# Altium footprint library PcbLib1.PcbLib: 22 footprints (part 1 of 2)
Each footprint in its own frame and in the unit in brackets; x right, y up, seen from the top. Pads: shape width x height; smd on the part's side, far side on the other; paste and mask are expansions set on the pad; w line width, h text height; cw(c..) or ccw(c..) is an arc to the next point about the centre after c.
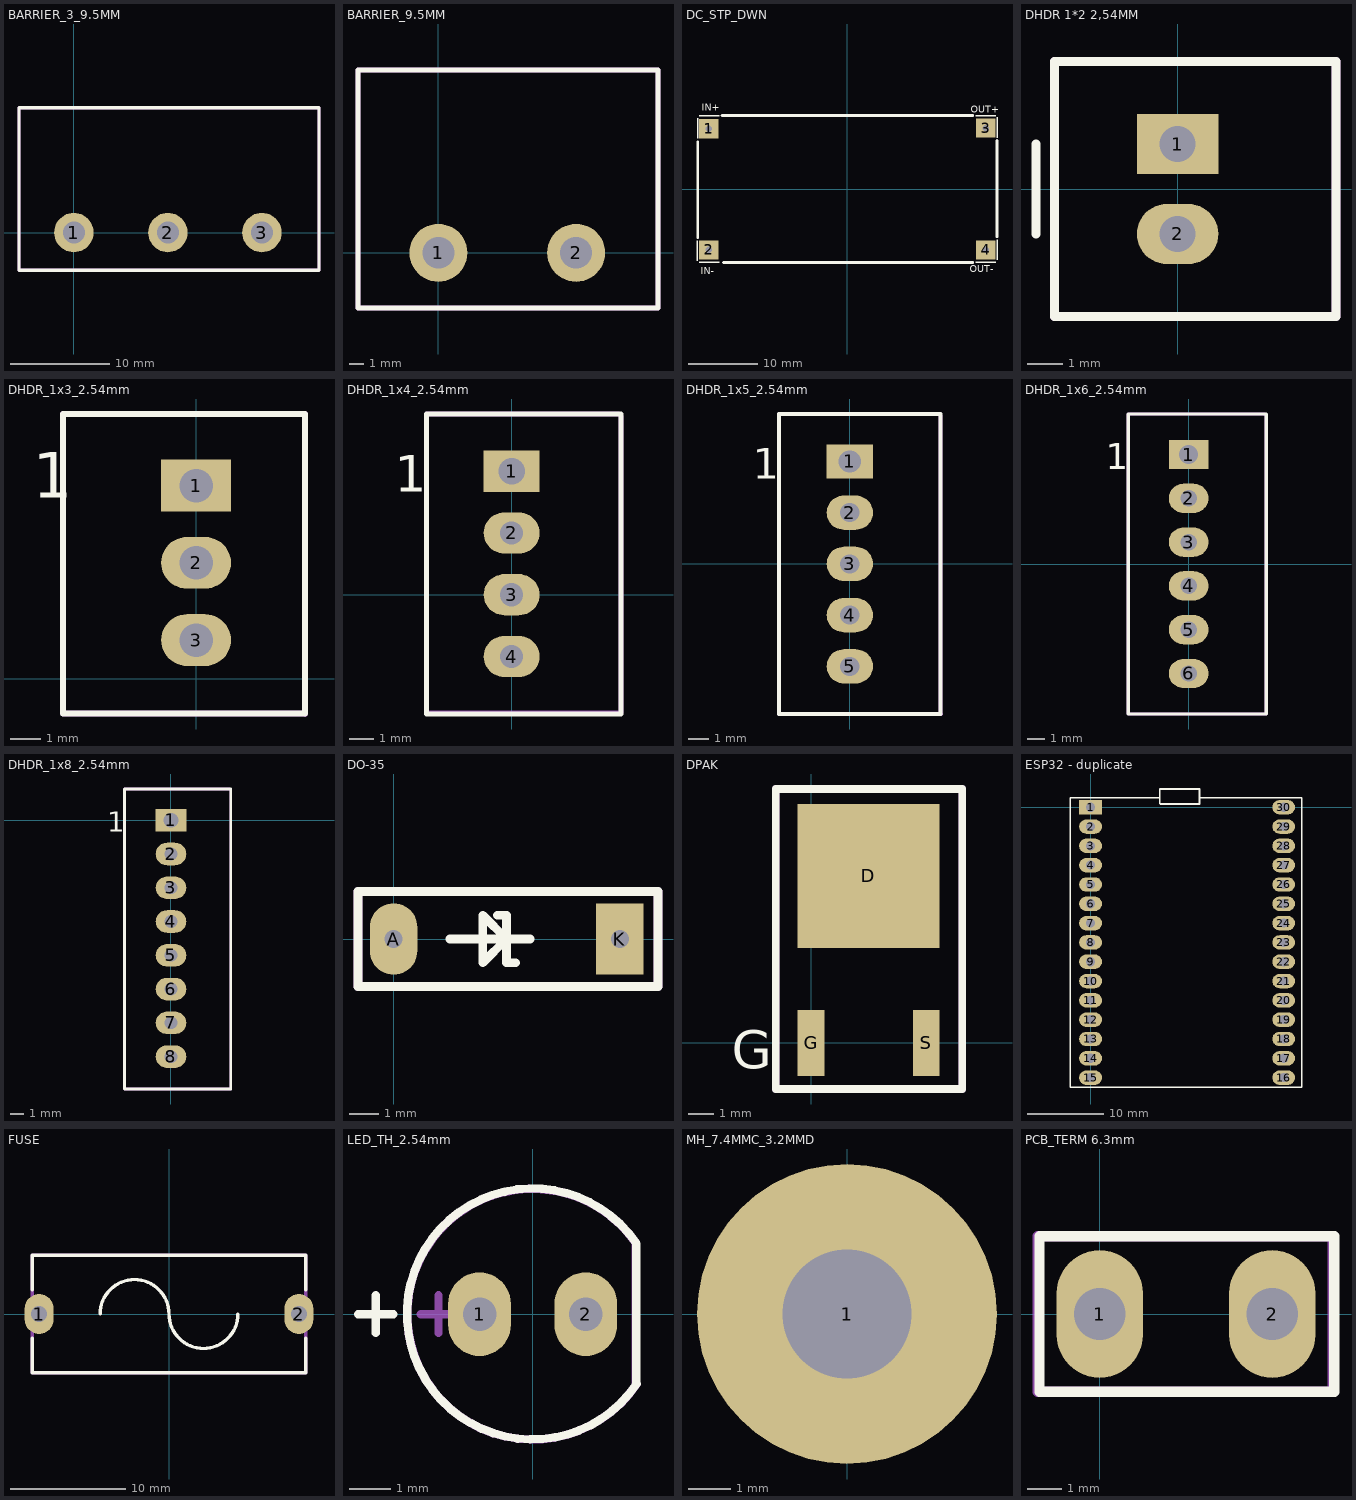
[diagram p0: the footprints below, top view; thin cyan lines are the x and y axes]

## BARRIER_3_9.5MM [mm]
pads (3):
  round 4 hole 2.2: 1(0,0) 2(9.5,0) 3(19,0)
Top Overlay:
  lines w0.35: -5.55,-3.8 24.765,-3.8 24.765,12.6 -5.55,12.6 -5.55,-3.8
Mechanical 2:
  lines w0.35: -5.55,-3.8 -5.55,12.6 24.765,12.6 24.765,-3.8 -5.55,-3.8
  text ".Designator" at -2.45,5.7 h4
3D body "hb9500_asm.stp": height 20.61, standoff -4.43, extent -5.5,-3.725 15.1,12.475
3D body "hb9500_asm.stp": height 20.61, standoff -4.43, extent 4,-3.725 24.6,12.475

## BARRIER_9.5MM [mm]
pads (2):
  round 4 hole 2.2: 1(0,0) 2(9.5,0)
Top Overlay:
  lines w0.35: -5.55,-3.8 15.15,-3.8 15.15,12.6 -5.55,12.6 -5.55,-3.8
Mechanical 2:
  lines w0.35: -5.55,-3.8 -5.55,12.6 15.15,12.6 15.15,-3.8 -5.55,-3.8
  text ".Designator" at -2.45,5.7 h4
3D body "hb9500_asm.stp": height 20.61, standoff -4.43, extent -5.5,-3.725 15.1,12.475

## DC_STP_DWN [mm]
pads (4):
  rect 2.8x2.8 hole 0.95: 1(-20,8.7) 2(-20,-8.8) 3(20,8.8) 4(20,-8.8)
Top Overlay:
  lines w0.2: -21.717,-10.393 -21.717,-7.493 ; -21.6,7.3 -21.6,10.2 ; -21.4,-10.6 -18.5,-10.6 ; -21.4,10.6 -18.5,10.6 ; 18.5,-10.6 21.4,-10.6 ; 18.5,10.6 21.4,10.6 ; 21.6,-10.2 21.6,-7.3 ; 21.6,7.427 21.6,10.327
  lines w0.4: -21.6,-7 -21.6,6.8 ; -18.1,10.6 18.1,10.6 ; -17.9,-10.6 18.1,-10.6 ; 21.6,-6.9 21.6,7
  text "OUT+" at 17.8,11 h1
  text "IN+" at -21,11.3 h1
  text "IN-" at -21.2,-12.3 h1
  text "OUT-" at 17.7,-12 h1
3D body "LM2596 DC-DC StepDown Converter v1.step": height 13.16, standoff -0.99, extent -21.5,-10.5 21.5,10.5

## DHDR 1*2 2,54MM [mm]
pads (2):
  rect 2.3x1.7 hole 1.016: 1(0,1.27)
  oval 2.3x1.7 hole 1.016: 2(0,-1.27)
Top Overlay:
  lines w0.254: -4,-1.275 -4,1.275 ; -3.475,-3.607 4.475,-3.607 4.475,3.607 -3.475,3.607 -3.475,-3.607
Mechanical 2:
  lines w0.254: -3.475,-3.607 -3.475,3.607 4.475,3.607 4.475,-3.607 -3.475,-3.607
  text ".Designator" at -2.7,-0.85 h2.5
3D body "c-2-644861-2-n-3d.stp": height 10.43, standoff -3.54, extent -3.475,-3.607 4.475,3.607

## DHDR_1x3_2.54mm [mm]
pads (3):
  rect 2.3x1.7 hole 1.1: 1(0,6.35)
  oval 2.3x1.7 hole 1.1: 2(0,3.81) 3(0,1.27)
Top Overlay:
  lines w0.2: -4.369,-1.143 -4.369,8.7 3.581,8.7 3.581,-1.143 -4.369,-1.143
  text "1" at -5.359,5.944 h1.5
Mechanical 2:
  lines w0.2: 3.567,-1.143 -4.369,-1.143 -4.369,8.7 3.581,8.7 3.581,-1.158
  text ".Designator" at 2.4,-1.3 h4.5
3D body "c-2-644861-3-n-3d.stp": height 9.66, standoff -4.31, extent -4.432,-1.041 3.518,8.712

## DHDR_1x4_2.54mm [mm]
pads (4):
  rect 2.3x1.7 hole 1.1: 1(0,5.08)
  oval 2.3x1.7 hole 0.95: 2(0,2.54) 3(0,0) 4(0,-2.54)
Top Overlay:
  lines w0.2: 4.495,7.425 4.495,-4.902 -3.5,-4.902 -3.5,7.43 4.5,7.43
  text "1" at -4.8,4.23 h1.5
Mechanical 2:
  lines w0.2: 4.4,7.43 -3.5,7.43 -3.5,-4.851 4.5,-4.851 4.5,7.33
  text ".Designator" at 2.438,-2.565 h4.5
3D body "c-2-644861-4-n-3d.stp": height 10.43, standoff -3.54, extent -3.467,-4.953 4.483,7.341

## DHDR_1x5_2.54mm [mm]
pads (5):
  rect 2.3x1.7 hole 1.1: 1(0,5.08)
  oval 2.3x1.7 hole 0.95: 2(0,2.54) 3(0,0) 4(0,-2.54) 5(0,-5.08)
Top Overlay:
  lines w0.2: -3.505,-7.442 4.495,-7.442 4.495,7.425 ; -3.5,-7.437 -3.5,7.43 4.5,7.43
  text "1" at -4.8,4.23 h1.5
Mechanical 2:
  lines w0.2: -3.5,-7.442 -3.5,7.43 4.4,7.43 ; -3.48,-7.442 4.52,-7.442 ; 4.5,-7.322 4.5,7.33
  text ".Designator" at 2.4,-2.57 h4.5
3D body "c-2-644861-5-n-3d.stp": height 10.43, standoff -3.54, extent -3.492,-7.417 4.458,7.417

## DHDR_1x6_2.54mm [mm]
pads (6):
  rect 2.3x1.7 hole 1.1: 1(0,6.35)
  oval 2.3x1.7 hole 0.95: 2(0,3.81) 3(0,1.27) 4(0,-1.27) 5(0,-3.81) 6(0,-6.35)
Top Overlay:
  lines w0.2: -3.5,-8.7 -3.5,8.7 4.5,8.7 4.5,-8.7 -3.5,-8.7
  text "1" at -4.8,5.5 h1.5
Mechanical 2:
  lines w0.2: -3.5,-8.7 4.5,-8.7 4.5,8.6 4.4,8.7 -3.5,8.7 -3.5,-8.7
  text ".Designator" at 2.667,-3.302 h4.5
3D body "c-2-644861-6-n-3d.stp": height 10.43, standoff -3.54, extent -3.505,-8.687 4.445,8.687

## DHDR_1x8_2.54mm [mm]
pads (8):
  rect 2.3x1.7 hole 1.1: 1(0,0)
  oval 2.3x1.7 hole 0.95: 2(0,-2.54) 3(0,-5.08) 4(0,-7.62) 5(0,-10.16) 6(0,-12.7) 7(0,-15.24) 8(0,-17.78)
Top Overlay:
  lines w0.2: 4.495,2.345 4.495,-20.218 -3.5,-20.218 -3.5,2.35 4.5,2.35
  text "1" at -4.8,-0.85 h1.5
Mechanical 2:
  lines w0.2: 4.4,2.35 -3.5,2.35 -3.5,-20.218 4.5,-20.218 4.5,2.25
  text ".Designator" at 2.4,-7.65 h4.5
3D body "c-2-644861-8-n-3d.stp": height 10.43, standoff -3.54, extent -3.467,-20.168 4.483,2.286

## DO-35 [mm]
pads (2):
  oval 1.6x2.4 hole 0.6: A(0,0)
  rect 1.6x2.4 hole 0.6: K(7.62,0)
Top Overlay:
  lines w0.3: 1.9,0 4.6,0 ; 3.5,0.8 3.8,0.8 3.8,-0.8 4.1,-0.8 ; -1.2,-1.6 -1.2,1.6 8.9,1.6 8.9,-1.6 -1.2,-1.6 ; 3,-0.8 3,0.8 3.8,0 3,-0.8
Mechanical 2:
  lines w0.3: -1.2,-1.6 -1.2,1.6 8.9,1.6 8.9,-1.6 -1.2,-1.6
3D body "Diode DO-35 300 mil.step": height 2.01, standoff -2, extent -0.26,-1 7.86,1.012

## DPAK [mm]
pads (3):
  rect 5.632x5.7 smd: D(2.275,6.625)
  rect 1.06x2.6 smd: G(0,0) S(4.572,0)
Top Overlay:
  lines w0.3: -1.4,-1.825 6,-1.825 6,10.075 -1.4,10.075 -1.4,8.225 -1.4,-1.825
  text "G" at -3.15,-1.025 h1.5
Mechanical 2:
  lines w0.3: -1.4,-1.825 6,-1.825 6,10.075 -1.4,10.075 -1.4,8.225 -1.4,-1.825
  text ".Designator" at -0.375,3.425 h1.5
3D body "TO252 Gehäuse.step": height 2.3, standoff -0.05, extent -0.975,-0.5 5.525,8.2

## ESP32 - duplicate [mm]
pads (30):
  rect 3x1.9 hole 1.2: 1(0,0)
  oval 3x1.9 hole 1.2: 2(0,-2.54) 3(0,-5.08) 4(0,-7.62) 5(0,-10.16) 6(0,-12.7) 7(0,-15.24) 8(0,-17.78) 9(0,-20.32) 10(0,-22.86) 11(0,-25.4) 12(0,-27.94) 13(0,-30.48) 14(0,-33.02) 15(0,-35.56) 16(25.4,-35.56) 17(25.4,-33.02) 18(25.4,-30.48) 19(25.4,-27.94) 20(25.4,-25.4) 21(25.4,-22.86) 22(25.4,-20.32) 23(25.4,-17.78) 24(25.4,-15.24) 25(25.4,-12.7) 26(25.4,-10.16) 27(25.4,-7.62) 28(25.4,-5.08) 29(25.4,-2.54) 30(25.4,0)
Top Overlay:
  lines w0.2: 9.1,1.27 -2.7,1.27 -2.7,-36.83 27.8,-36.83 27.8,1.27 14.3,1.27
  lines w0.254: 9.1,0.5 9.1,2.4 14.3,2.4 14.3,0.4 9.2,0.4 9.1,0.5

## FUSE [mm]
pads (2):
  oval 2.5x3.5 hole 1.4: 1(-11.3,0) 2(11.3,0)
Top Overlay:
  lines w0.3: -11.9,-2.1 -11.9,-5.1 11.9,-5.1 11.9,-2.1 ; -11.9,2.1 -11.9,5.1 11.9,5.1 11.9,2.1 ; -6,0 cw(c-3,0) 0,0 ccw(c3,0) 6,0
Mechanical 1:
  lines w0.3: -11.9,-5.1 11.9,-5.1 11.9,5.1 -11.9,5.1 -11.9,-5.1
Mechanical 2:
  text ".Designator" at -7.45,-0.55 h1.5
3D body "FUSE-0031.8201.stp": height 11.5, standoff -4, extent -11.55,-4.8 11.55,4.8

## LED_TH_2.54mm [mm]
pads (2):
  oval 1.5x2 hole 0.8: 1(-1.27,0) 2(1.27,0)
Top Overlay:
  lines w0.2: -4.175,0 -3.325,0 ; -3.75,-0.45 -3.75,0.45 ; 2.481,-1.667 2.481,1.687 ccw(c-0.004,0.006) 2.49,-1.661
Mechanical 2:
  lines w0.2: -2.675,0 -1.825,0 ; -2.25,-0.45 -2.25,0.45 ; -2.25,0 -2.25,0.45 ; 2.462,-1.678 2.462,1.708 ccw(c0,0) 2.474,-1.69 ; -2.25,0.45 -2.25,0.45
  text ".Designator" at -0.05,0.275 h1
3D body "User Library-LED-D5R.step": height 8.96, standoff -6.48, extent -3,-3 2.5,3

## MH_7.4MMC_3.2MMD [mm]
pads (1):
  round 7 hole 3: 1(0,0)

## PCB_TERM 6.3mm [mm]
pads (2):
  oval 2.5x3.7 hole 1.5: 1(0,0) 2(5,0)
Top Overlay:
  lines w0.3: -1.75,-2.25 -1.75,2.25 6.8,2.25 6.8,-2.25 -1.75,-2.25
Mechanical 2:
  lines w0.3: -1.8,-2.25 -1.8,2.25 6.75,2.25 6.75,-2.25 -1.8,-2.25
  text ".Designator" at -0.4,-0.9 h1.5
3D body "User Library-DJ610 6_3 (TA-M).step": height 10, standoff -3.5, extent -1.5,-0.4 6.5,0.4